# Altium footprint library Footprints.PcbLib: 132 footprints (part 7 of 9)
Each footprint in its own frame and in the unit in brackets; x right, y up, seen from the top. Pads: shape width x height; smd on the part's side, far side on the other; paste and mask are expansions set on the pad; w line width, h text height; cw(c..) or ccw(c..) is an arc to the next point about the centre after c.
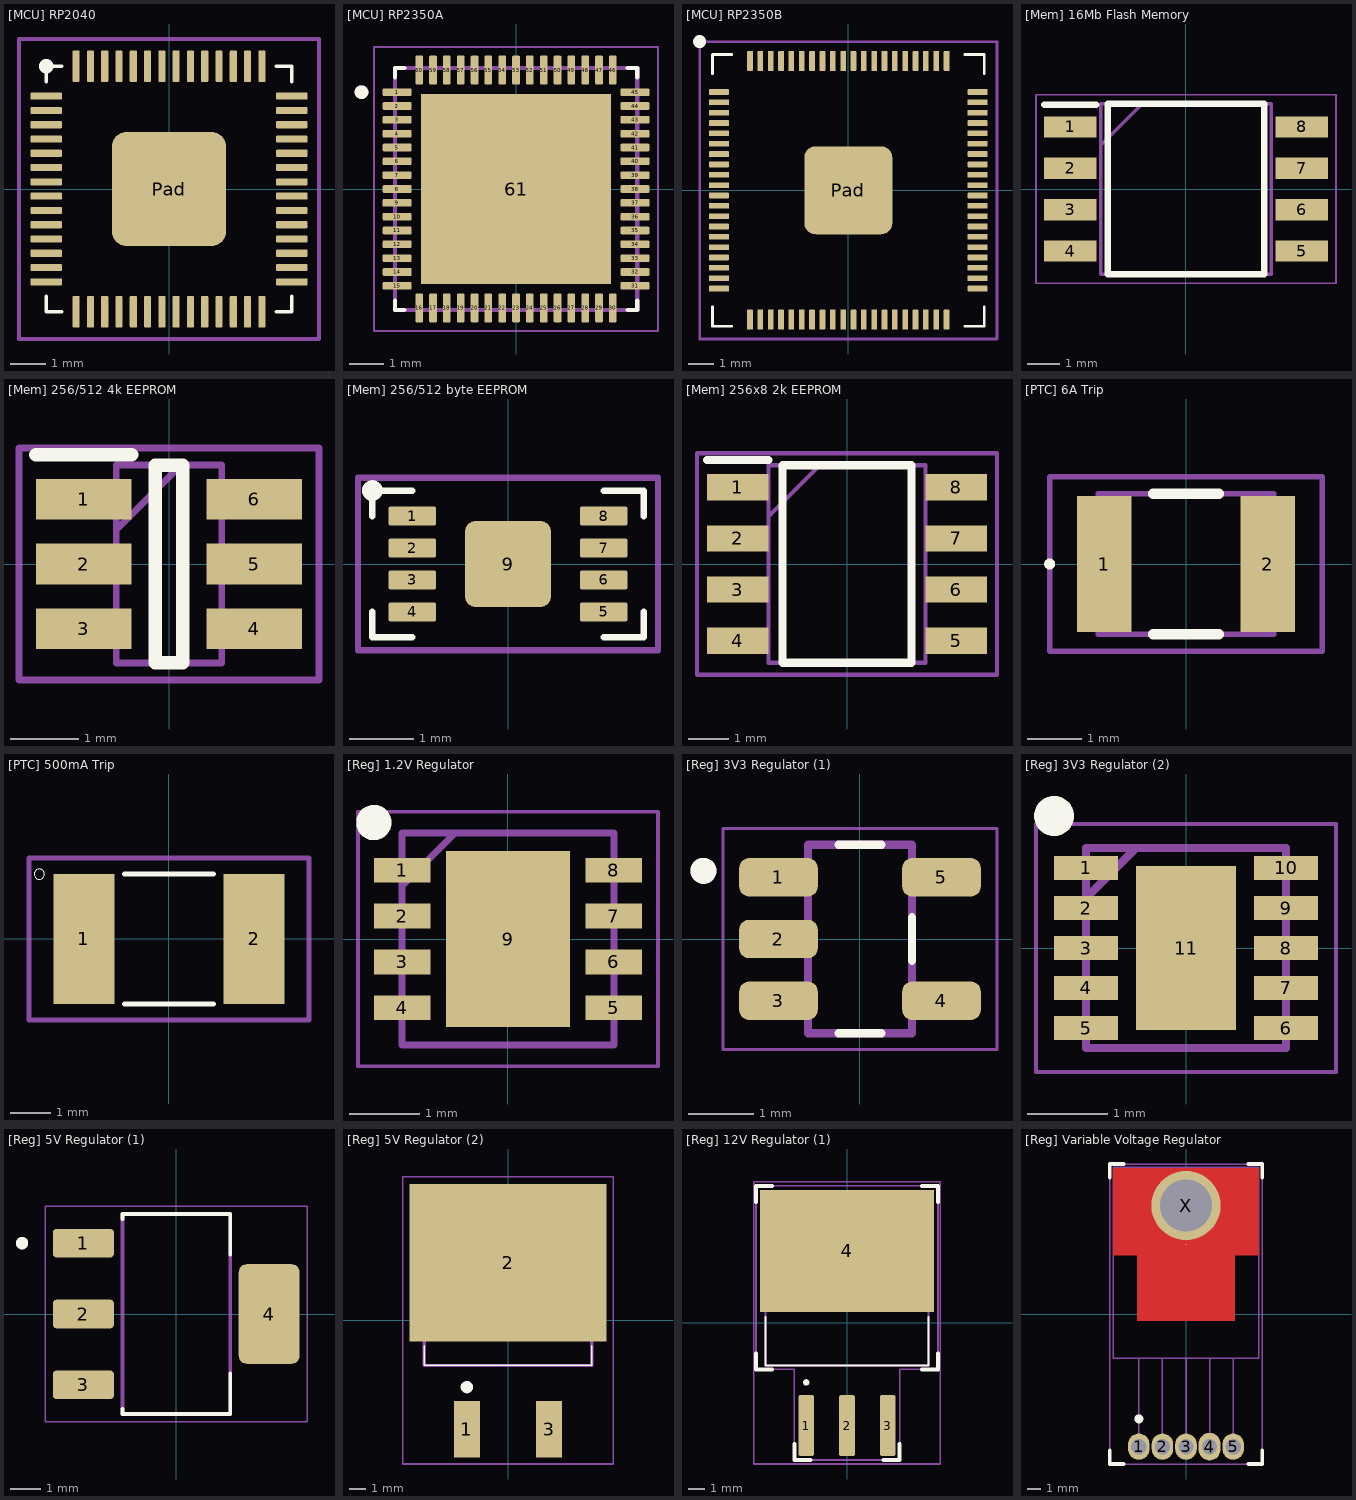
[diagram p6: the footprints below, top view; thin cyan lines are the x and y axes]

## [MCU] RP2040 [mm]
pads (57):
  rrect25% 0.875x0.2 smd: 1(-3.437,2.6) 2(-3.437,2.2) 3(-3.437,1.8) 4(-3.437,1.4) 5(-3.437,1) 6(-3.437,0.6) 7(-3.437,0.2) 8(-3.437,-0.2) 9(-3.437,-0.6) 10(-3.437,-1) 11(-3.437,-1.4) 12(-3.437,-1.8) 13(-3.437,-2.2) 14(-3.437,-2.6) 29(3.437,-2.6) 30(3.437,-2.2) 31(3.437,-1.8) 32(3.437,-1.4) 33(3.437,-1) 34(3.437,-0.6) 35(3.437,-0.2) 36(3.437,0.2) 37(3.437,0.6) 38(3.437,1) 39(3.437,1.4) 40(3.437,1.8) 41(3.437,2.2) 42(3.437,2.6)
  rrect25% 0.2x0.875 smd: 15(-2.6,-3.437) 16(-2.2,-3.437) 17(-1.8,-3.437) 18(-1.4,-3.437) 19(-1,-3.437) 20(-0.6,-3.437) 21(-0.2,-3.437) 22(0.2,-3.437) 23(0.6,-3.437) 24(1,-3.437) 25(1.4,-3.437) 26(1.8,-3.437) 27(2.2,-3.437) 28(2.6,-3.437) 43(2.6,3.437) 44(2.2,3.437) 45(1.8,3.437) 46(1.4,3.437) 47(1,3.437) 48(0.6,3.437) 49(0.2,3.437) 50(-0.2,3.437) 51(-0.6,3.437) 52(-1,3.437) 53(-1.4,3.437) 54(-1.8,3.437) 55(-2.2,3.437) 56(-2.6,3.437)
  rrect25% 3.2x3.2 smd: Pad(0,0)
Top Overlay:
  circle w0.254: c-3.437,3.437 r0.074
  lines w0.1: -3.437,-3 -3.437,-3.437 -3,-3.437 ; -3.437,3 -3.437,3.437 ; -3.437,3.437 -3,3.437 ; 3,-3.437 3.437,-3.437 ; 3,3.437 3.437,3.437 ; 3.437,-3.437 3.437,-3 ; 3.437,3 3.437,3.437
Part Border:
  lines w0.1: -4.2,-4.2 4.2,-4.2 4.2,4.2 -4.2,4.2 -4.2,-4.2

## [MCU] RP2350A [mm]
pads (61):
  rrect25% 0.83x0.22 smd: 1(-3.44,2.8) 2(-3.44,2.4) 3(-3.44,2) 4(-3.44,1.6) 5(-3.44,1.2) 6(-3.44,0.8) 7(-3.44,0.4) 8(-3.44,0) 9(-3.44,-0.4) 10(-3.44,-0.8) 11(-3.44,-1.2) 12(-3.44,-1.6) 13(-3.44,-2) 14(-3.44,-2.4) 15(-3.44,-2.8) 31(3.44,-2.8) 32(3.44,-2.4) 33(3.44,-2) 34(3.44,-1.6) 35(3.44,-1.2) 36(3.44,-0.8) 37(3.44,-0.4) 38(3.44,0) 39(3.44,0.4) 40(3.44,0.8) 41(3.44,1.2) 42(3.44,1.6) 43(3.44,2) 44(3.44,2.4) 45(3.44,2.8)
  rrect25% 0.22x0.83 smd: 16(-2.8,-3.44) 17(-2.4,-3.44) 18(-2,-3.44) 19(-1.6,-3.44) 20(-1.2,-3.44) 21(-0.8,-3.44) 22(-0.4,-3.44) 23(0,-3.44) 24(0.4,-3.44) 25(0.8,-3.44) 26(1.2,-3.44) 27(1.6,-3.44) 28(2,-3.44) 29(2.4,-3.44) 30(2.8,-3.44) 46(2.8,3.44) 47(2.4,3.44) 48(2,3.44) 49(1.6,3.44) 50(1.2,3.44) 51(0.8,3.44) 52(0.4,3.44) 53(0,3.44) 54(-0.4,3.44) 55(-0.8,3.44) 56(-1.2,3.44) 57(-1.6,3.44) 58(-2,3.44) 59(-2.4,3.44) 60(-2.8,3.44)
  rect 5.5x5.5 smd paste-4: 61(0,0)
Top Overlay:
  circle w0.2: c-4.47,2.8 r0.1
  lines w0.127: -3.5,-3.23 -3.5,-3.5 -3.23,-3.5 ; -3.5,3.23 -3.5,3.5 -3.23,3.5 ; 3.23,-3.5 3.5,-3.5 3.5,-3.23 ; 3.23,3.5 3.5,3.5 3.5,3.23
Top Paste:
  region: -0.505,0.505 -2.245,0.505 -2.245,2.245 -0.505,2.245
  region: 2.245,0.505 0.505,0.505 0.505,2.245 2.245,2.245
  region: -0.505,-2.245 -2.245,-2.245 -2.245,-0.505 -0.505,-0.505
  region: 2.245,-2.245 0.505,-2.245 0.505,-0.505 2.245,-0.505
Physical Outline:
  circle w0.2: c-4.47,2.8 r0.1
  lines w0.127: -3.5,-3.5 3.5,-3.5 3.5,3.5 -3.5,3.5 -3.5,-3.5
Part Border:
  lines w0.05: -4.105,-4.105 4.105,-4.105 4.105,4.105 -4.105,4.105 -4.105,-4.105
3D body "RP2350A.stp": height 0.96, standoff 0, extent -3.55,-3.55 3.55,3.55

## [MCU] RP2350B [mm]
pads (81):
  rrect25% 0.78x0.22 smd: 1(-5,3.8) 2(-5,3.4) 3(-5,3) 4(-5,2.6) 5(-5,2.2) 6(-5,1.8) 7(-5,1.4) 8(-5,1) 9(-5,0.6) 10(-5,0.2) 11(-5,-0.2) 12(-5,-0.6) 13(-5,-1) 14(-5,-1.4) 15(-5,-1.8) 16(-5,-2.2) 17(-5,-2.6) 18(-5,-3) 19(-5,-3.4) 20(-5,-3.8) 41(5,-3.8) 42(5,-3.4) 43(5,-3) 44(5,-2.6) 45(5,-2.2) 46(5,-1.8) 47(5,-1.4) 48(5,-1) 49(5,-0.6) 50(5,-0.2) 51(5,0.2) 52(5,0.6) 53(5,1) 54(5,1.4) 55(5,1.8) 56(5,2.2) 57(5,2.6) 58(5,3) 59(5,3.4) 60(5,3.8)
  rrect25% 0.22x0.78 smd: 21(-3.8,-5) 22(-3.4,-5) 23(-3,-5) 24(-2.6,-5) 25(-2.2,-5) 26(-1.8,-5) 27(-1.4,-5) 28(-1,-5) 29(-0.6,-5) 30(-0.2,-5) 31(0.2,-5) 32(0.6,-5) 33(1,-5) 34(1.4,-5) 35(1.8,-5) 36(2.2,-5) 37(2.6,-5) 38(3,-5) 39(3.4,-5) 40(3.8,-5) 61(3.8,5) 62(3.4,5) 63(3,5) 64(2.6,5) 65(2.2,5) 66(1.8,5) 67(1.4,5) 68(1,5) 69(0.6,5) 70(0.2,5) 71(-0.2,5) 72(-0.6,5) 73(-1,5) 74(-1.4,5) 75(-1.8,5) 76(-2.2,5) 77(-2.6,5) 78(-3,5) 79(-3.4,5) 80(-3.8,5)
  rrect25% 3.4x3.4 smd: Pad(0,0)
Top Overlay:
  circle w0.3: c-5.75,5.75 r0.1
  lines w0.1: -5.25,-4.5 -5.25,-5.25 -4.5,-5.25 ; -5.25,4.5 -5.25,5.25 -4.5,5.25 ; 4.5,-5.25 5.25,-5.25 5.25,-4.5 ; 4.5,5.25 5.25,5.25 5.25,4.5
Part Border:
  lines w0.1: 5.75,-5.75 -5.75,-5.75 -5.75,5.75 5.75,5.75 5.75,-5.75
3D body "RP2350B.stp": height 0.96, standoff 0, extent -5.05,-5.05 5.05,5.05

## [Mem] 16Mb Flash Memory [mm] "W25Q128JVSIQ TR"
pads (8):
  rect 1.6x0.65 smd: 1(-3.55,1.905) 2(-3.55,0.635) 3(-3.55,-0.635) 4(-3.55,-1.905) 5(3.55,-1.905) 6(3.55,-0.635) 7(3.55,0.635) 8(3.55,1.905)
Top Overlay:
  lines w0.2: -4.35,2.58 -2.75,2.58 ; -2.4,-2.615 -2.4,2.615 2.4,2.615 2.4,-2.615 -2.4,-2.615
Physical Outline:
  lines w0.1: -2.615,1.345 -1.345,2.615 ; -2.615,-2.615 -2.615,2.615 2.615,2.615 2.615,-2.615 -2.615,-2.615
Part Border:
  lines w0.05: -4.6,-2.89 -4.6,2.89 4.6,2.89 4.6,-2.89 -4.6,-2.89
3D body "W25Q128JVSIQ_TR.stp": height 1.95, standoff 0, extent -3.9,-2.615 3.9,2.615

## [Mem] 256/512 4k EEPROM [mm] "93LC66AT-I/OT"
pads (6):
  rect 1.4x0.6 smd: 1(-1.25,0.95) 2(-1.25,0) 3(-1.25,-0.95) 4(1.25,-0.95) 5(1.25,0) 6(1.25,0.95)
Top Overlay:
  lines w0.2: -1.95,1.6 -0.55,1.6 ; -0.2,-1.45 -0.2,1.45 0.2,1.45 0.2,-1.45 -0.2,-1.45
Physical Outline:
  lines w0.1: -0.775,0.5 0.175,1.45 ; -0.775,-1.45 -0.775,1.45 0.775,1.45 0.775,-1.45 -0.775,-1.45
Part Border:
  lines w0.1: -2.2,-1.7 -2.2,1.7 2.2,1.7 2.2,-1.7 -2.2,-1.7
3D body "93LC66AT-I_OT.stp": height 1.45, standoff 0, extent -1.35,-1.45 1.35,1.45

## [Mem] 256/512 byte EEPROM [mm] "AT93C56B-MAHM-T"
pads (9):
  rrect25% 0.75x0.3 smd: 1(-1.5,0.75) 2(-1.5,0.25) 3(-1.5,-0.25) 4(-1.5,-0.75) 5(1.5,-0.75) 6(1.5,-0.25) 7(1.5,0.25) 8(1.5,0.75)
  rrect25% 1.35x1.35 smd: 9(0,0)
Top Overlay:
  circle w0.125: c-2.125,1.15 r0.1
  lines w0.1: -2.125,-0.75 -2.125,-1.15 -1.5,-1.15 ; -2.125,0.75 -2.125,1.15 -1.5,1.15 ; 1.5,-1.15 2.125,-1.15 2.125,-0.75 ; 1.5,1.15 2.125,1.15 2.125,0.75
Part Border:
  lines w0.1: -2.35,-1.35 2.35,-1.35 2.35,1.35 -2.35,1.35 -2.35,-1.35
3D body "[Mem] 256_512 byte EEPROM.step": height 0.48, standoff 0, extent -1.525,-1.025 1.525,1.025

## [Mem] 256x8 2k EEPROM [mm] "M24C02-DRMN8TP"
pads (8):
  rect 1.528x0.65 smd: 1(-2.711,1.905) 2(-2.711,0.635) 3(-2.711,-0.635) 4(-2.711,-1.905) 5(2.711,-1.905) 6(2.711,-0.635) 7(2.711,0.635) 8(2.711,1.905)
Top Overlay:
  lines w0.2: -3.475,2.58 -1.948,2.58 ; -1.598,-2.452 1.598,-2.452 1.598,2.452 -1.598,2.452 -1.598,-2.452
Physical Outline:
  lines w0.1: -1.948,1.182 -0.678,2.452 ; -1.948,-2.452 1.948,-2.452 1.948,2.452 -1.948,2.452 -1.948,-2.452
Part Border:
  lines w0.1: -3.725,-2.75 3.725,-2.75 3.725,2.75 -3.725,2.75 -3.725,-2.75
3D body "TMCS1100A3QDR.stp": height 1.63, standoff 0, extent -3.011,-2.451 3.011,2.451

## [PTC] 6A Trip [mm]
pads (2):
  rect 1x2.5 smd: 1(-1.5,0) 2(1.5,0)
Top Overlay:
  lines w0.1: -2.55,0 ccw(c-2.5,0) -2.45,0 ccw(c-2.5,0) -2.55,0
  lines w0.2: -0.6,-1.288 0.6,-1.288 ; -0.6,1.288 0.6,1.288
Physical Outline:
  lines w0.1: -1.607,-1.288 1.607,-1.288 1.607,1.288 -1.607,1.288 -1.607,-1.288
Part Border:
  lines w0.1: -2.5,-1.6 2.5,-1.6 2.5,1.6 -2.5,1.6 -2.5,-1.6
3D body "MF-USML300_6-2.stp": height 1.3, standoff 0, extent -1.9,-1.288 1.9,1.288

## [PTC] 500mA Trip [mm] "Part #: MF-MSMF050-2"
pads (2):
  rect 1.5x3.2 smd: 1(-2.1,0) 2(2.1,0)
Top Overlay:
  circle w0: c-3.2,1.6 r0.127
  lines w0.127: -1.1,-1.6 1.1,-1.6 ; -1.1,1.6 1.1,1.6
Part Border:
  lines w0.127: -3.45,-2 -3.45,2 3.45,2 3.45,-2 -3.45,-2
3D body "SMD 500mA Resetable Fuse (MF-MSMF050-2).STEP": height 1.1, standoff 0, extent -2.275,-1.62 2.275,1.62

## [Reg] 1.2V Regulator [mm]
pads (9):
  rect 0.8x0.35 smd: 1(-1.5,0.975) 2(-1.5,0.325) 3(-1.5,-0.325) 4(-1.5,-0.975) 5(1.5,-0.975) 6(1.5,-0.325) 7(1.5,0.325) 8(1.5,0.975)
  rect 1.75x2.5 smd: 9(0,0)
Top Overlay:
  circle w0.25: c-1.9,1.65 r0.125
Physical Outline:
  lines w0.1: -1.5,0.75 -0.75,1.5 ; -1.5,-1.5 1.5,-1.5 1.5,1.5 -1.5,1.5 -1.5,-1.5
Part Border:
  lines w0.05: -2.125,-1.8 2.125,-1.8 2.125,1.8 -2.125,1.8 -2.125,-1.8
3D body "TPS78412QWDRBRQ1.stp": height 1, standoff 0, extent -1.5,-1.5 1.5,1.5

## [Reg] 3V3 Regulator (1) [mm] "Part #: LP2985-33DBVR"
pads (5):
  rrect50% 1.21x0.59 smd: 1(-1.255,0.95) 2(-1.255,0) 3(-1.255,-0.95) 4(1.255,-0.95) 5(1.255,0.95)
Top Overlay:
  circle w0.2: c-2.41,1.05 r0.1
  lines w0.127: -0.33,-1.45 0.33,-1.45 ; -0.33,1.45 0.33,1.45 ; 0.8,-0.335 0.8,0.335
Physical Outline:
  circle w0.2: c-2.41,1.05 r0.1
  lines w0.127: -0.8,-1.45 -0.8,1.45 0.8,1.45 0.8,-1.45 -0.8,-1.45
Part Border:
  lines w0.05: -2.11,-1.7 2.11,-1.7 2.11,1.7 -2.11,1.7 -2.11,-1.7
3D body "SMD 3V3 Regulator (LP2985-33DBVR).STEP": height 1.45, standoff 0, extent -1.4,-1.45 1.4,1.45

## [Reg] 3V3 Regulator (2) [mm] "RT6150B-33GQW"
pads (11):
  rect 0.8x0.3 smd: 1(-1.25,1) 2(-1.25,0.5) 3(-1.25,0) 4(-1.25,-0.5) 5(-1.25,-1) 6(1.25,-1) 7(1.25,-0.5) 8(1.25,0) 9(1.25,0.5) 10(1.25,1)
  rect 1.25x2.05 smd: 11(0,0)
Top Overlay:
  circle w0.25: c-1.65,1.65 r0.125
Physical Outline:
  lines w0.1: -1.25,0.625 -0.625,1.25 ; -1.25,-1.25 -1.25,1.25 1.25,1.25 1.25,-1.25 -1.25,-1.25
Part Border:
  lines w0.05: -1.875,-1.55 -1.875,1.55 1.875,1.55 1.875,-1.55 -1.875,-1.55
3D body "RT6150B-33GQW.stp": height 0.8, standoff 0, extent -1.3,-1.25 1.3,1.25

## [Reg] 5V Regulator (1) [mm] "LD1117S50CTR"
pads (4):
  rrect25% 1.98x0.93 smd: 1(-3.015,2.3) 2(-3.015,0) 3(-3.015,-2.3)
  rrect25% 1.98x3.23 smd: 4(3.015,0)
Top Overlay:
  circle w0.2: c-5.005,2.3 r0.1
  lines w0.127: -1.75,-3.085 -1.75,-3.25 1.75,-3.25 1.75,-1.935 ; -1.75,3.085 -1.75,3.25 1.75,3.25 1.75,1.935
Physical Outline:
  circle w0.2: c-5.005,2.3 r0.1
  lines w0.127: -1.75,-3.25 1.75,-3.25 1.75,3.25 -1.75,3.25 -1.75,-3.25
Part Border:
  lines w0.05: -4.255,-3.5 4.255,-3.5 4.255,3.5 -4.255,3.5 -4.255,-3.5
3D body "SMD 5V Regulator (LD1117S50CTR).STEP": height 1.8, standoff 0, extent -3.499,-3.25 3.498,3.25

## [Reg] 5V Regulator (2) [mm] "511-L7805CD2T-TR"
pads (3):
  rect 1.6x3.5 smd: 1(-2.54,-6.719) 3(2.54,-6.719)
  rect 12.2x9.75 smd: 2(0,3.557)
Top Overlay:
  circle w0.4: c-2.54,-4.125 r0.18
  lines w0.1: -5.175,-1.581 -5.175,-2.781 5.175,-2.789 5.175,-1.581
Physical Outline:
  lines w0.2: -5.175,-2.789 -5.175,1.611 5.175,1.611 5.175,-2.789 -5.175,-2.789
Part Border:
  lines w0.1: -6.5,-8.875 -6.5,8.875 6.5,8.875 6.5,-8.875 -6.5,-8.875
3D body "L7805CD2T-TR.stp": height 4.6, standoff 0, extent -5.182,-8.197 5.182,7.694

## [Reg] 12V Regulator (1) [mm] "LM1085IS-12/NOPB"
pads (4):
  rrect25% 0.99x3.79 smd: 1(-2.54,-6.398) 2(0,-6.398) 3(2.54,-6.398)
  rect 10.84x7.62 smd paste-6: 4(0,4.482)
Top Overlay:
  circle w0.2: c-2.54,-3.708 r0.1
  lines w0.127: -5.08,0.352 -5.08,-2.646 5.08,-2.646 5.08,0.352
  lines w0.25: -5.67,-1.896 -5.67,-2.896 -4.67,-2.896 ; -5.67,7.542 -5.67,8.542 -4.67,8.542 ; -3.285,-7.543 -3.285,-8.543 -2.285,-8.543 ; 2.285,-8.543 3.285,-8.543 3.285,-7.543 ; 4.67,-2.896 5.67,-2.896 5.67,-1.896 ; 4.67,8.542 5.67,8.542 5.67,7.542
Top Paste:
  region: 5.13,2.667 5.13,1.217 3.87,1.217 3.87,2.667
  region: 3.33,2.667 3.33,1.217 2.07,1.217 2.07,2.667
  region: 1.53,2.667 1.53,1.217 0.27,1.217 0.27,2.667
  region: -3.87,2.667 -3.87,1.217 -5.13,1.217 -5.13,2.667
  region: -2.07,2.667 -2.07,1.217 -3.33,1.217 -3.33,2.667
  region: -0.27,2.667 -0.27,1.217 -1.53,1.217 -1.53,2.667
  region: 5.13,7.747 5.13,6.297 3.87,6.297 3.87,7.747
  region: 3.33,7.747 3.33,6.297 2.07,6.297 2.07,7.747
  region: 1.53,7.747 1.53,6.297 0.27,6.297 0.27,7.747
  region: -3.87,7.747 -3.87,6.297 -5.13,6.297 -5.13,7.747
  region: -2.07,7.747 -2.07,6.297 -3.33,6.297 -3.33,7.747
  region: -0.27,7.747 -0.27,6.297 -1.53,6.297 -1.53,7.747
  region: 5.13,5.207 5.13,3.757 3.87,3.757 3.87,5.207
  region: 3.33,5.207 3.33,3.757 2.07,3.757 2.07,5.207
  region: 1.53,5.207 1.53,3.757 0.27,3.757 0.27,5.207
  region: -3.87,5.207 -3.87,3.757 -5.13,3.757 -5.13,5.207
  region: -2.07,5.207 -2.07,3.757 -3.33,3.757 -3.33,5.207
  region: -0.27,5.207 -0.27,3.757 -1.53,3.757 -1.53,5.207
Physical Outline:
  lines w0.1: -5.67,-2.896 -3.285,-2.896 -3.285,-8.543 3.285,-8.543 3.285,-2.896 5.67,-2.896 5.67,8.542 -5.67,8.542 -5.67,-2.896
  lines w0.127: -5.08,-2.646 -5.08,6.375 5.08,6.375 5.08,-2.646 -5.08,-2.646
Part Border:
  lines w0.1: -5.8,-8.793 -5.8,8.792 5.8,8.792 5.8,-8.793 -5.8,-8.793
3D body "step_temp.STEP": height 4.83, standoff -0.25, extent -5.08,-7.618 5.08,7.622

## [Reg] Variable Voltage Regulator [mm] "MIC29302WT"
pads (7):
  oval 1.55x1.9 hole 1.1: 1(-3.4,-9.563) 2(-1.7,-9.563) 3(0,-9.563) 5(3.4,-9.563)
  oval 1.58x2 hole 1.1: 4(1.7,-9.563)
  round 0.025 smd: X(0,5.011)
  round 5 hole 3.75: X(0,7.813)
Top Layer:
  region: -5.25,4.236 -3.5,4.236 -3.5,-0.489 3.5,-0.489 3.5,4.236 5.25,4.236 5.25,10.511 -5.25,10.511
Top Overlay:
  circle w0.35: c-3.4,-7.562 r0.15
  lines w0.254: -5.5,-9.813 -5.5,-10.813 -4.5,-10.813 ; -5.5,9.813 -5.5,10.813 -4.5,10.813 ; 4.5,-10.813 5.5,-10.813 5.5,-9.813 ; 4.5,10.813 5.5,10.813 5.5,9.813
Physical Outline:
  lines w0.1: -3.4,-9.563 -3.4,-3.187 ; -1.7,-9.563 -1.7,-3.187 ; 0,-9.563 0,-3.187 ; 1.7,-9.563 1.7,-3.187 ; 3.4,-9.563 3.4,-3.187 ; -5.25,4.813 -5.25,10.563 5.25,10.563 5.25,4.813 ; -5.25,4.813 5.25,4.813 ; -5.25,4.813 -5.25,-3.187 5.25,-3.187 5.25,4.813
Part Border:
  lines w0.1: -5.5,-10.813 5.5,-10.813 5.5,10.813 -5.5,10.813 -5.5,-10.813
3D body "[IC] Buck Converter (12V Fixed).STEP": height 5.06, standoff -5.43, extent -5.08,-9.769 5.082,10.399